# EAGLE library part PCA82C250T (library pca82c250)
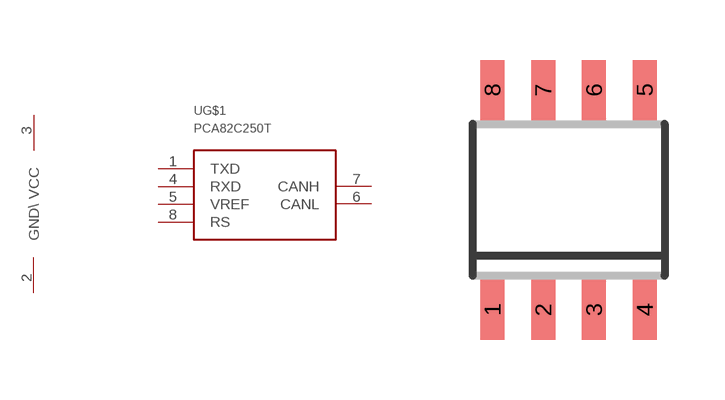
[diagram p0: symbol with the pads of SOIC8; footprint SOIC8]

Designator prefix U; gates G$1=PCA82C250 SUPPLY=SUPPLY

## PCA82C250T  [SOIC8]
1  G$1:TXD
2  SUPPLY:GND\
3  SUPPLY:VCC
4  G$1:RXD
5  G$1:VREF
6  G$1:CANL
7  G$1:CANH
8  G$1:RS

## Footprint SOIC8 (pad centres in mm)
SOIC-8 CASE 751-07 Source: http://www.onsemi.com/pub/Collateral/MC34164-D.PDF D (R-PDSO-G8)PLATIC SMALL-OUTLINE PACKAGE Source: http://focus.ti.com/lit/ds/symlink/tlc27l2.pdf
smd 0.6 x 1.5: 1 -1.905,-2.75; 2 -0.635,-2.75; 3 0.635,-2.75; 4 1.905,-2.75; 5 1.905,2.75; 6 0.635,2.75; 7 -0.635,2.75; 8 -1.905,2.75